# EAGLE library part MAX1763 (library MyParts)
1.5A, Low-Noise, 1MHz, Step-Up DC-DC Converter
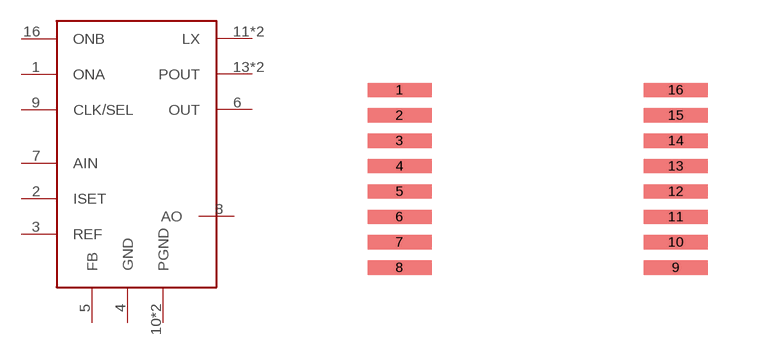
[diagram p23: symbol with the pads of QSOP16; footprint QSOP16]

Designator prefix -

## MAX1763EEE+  [QSOP16]
1  ONA
2  ISET
3  REF
4  GND
5  FB
6  OUT
7  AIN
8  AO
9  CLK/SEL
10  PGND
11  LX
12  PGND
13  POUT
14  LX
15  POUT
16  ONB

## Footprint QSOP16 (pad centres in mm)
smd 1.6 x 0.356: 1 -3.454,2.223; 2 -3.454,1.587; 3 -3.454,0.953; 4 -3.454,0.318; 5 -3.454,-0.318; 6 -3.454,-0.953; 7 -3.454,-1.587; 8 -3.454,-2.223; 9 3.454,-2.223; 10 3.454,-1.587; 11 3.454,-0.953; 12 3.454,-0.318; 13 3.454,0.318; 14 3.454,0.953; 15 3.454,1.587; 16 3.454,2.223